# Altium footprint library RES_SMD.PcbLib: 3 footprints
Each footprint in its own frame and in the unit in brackets; x right, y up, seen from the top. Pads: shape width x height; smd on the part's side, far side on the other; paste and mask are expansions set on the pad; w line width, h text height; cw(c..) or ccw(c..) is an arc to the next point about the centre after c.
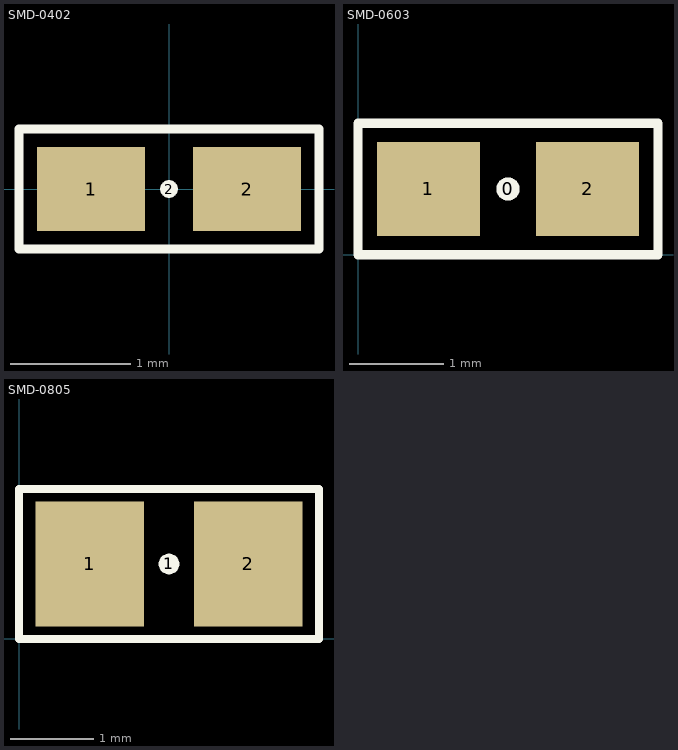
[diagram p0: the footprints below, top view; thin cyan lines are the x and y axes]

## SMD-0402 [mm] "Chip Resistor; Body 1 x 0.5 mm (LxW typ)"
height 0.4
pads (3):
  rect 0.9x0.7 smd: 1(-0.65,0) 2(0.65,0)
  round 0.15 on Top Overlay: 2(0,0)
Top Overlay:
  lines w0.075: -1.25,-0.5 1.25,-0.5 1.25,0.5 -1.25,0.5 -1.25,-0.5

## SMD-0603 [mm] "Chip Resistor; Body 1.6 x 0.8 mm (LxW typ)"
height 0.55
pads (3):
  round 0.25 on Top Overlay: 0(1.6,0.7)
  rect 1.1x1 smd: 1(0.75,0.7) 2(2.45,0.7)
Top Overlay:
  lines w0.1: 0,0 0,1.4 3.2,1.4 3.2,0 0,0
3D body "User Library-CR1608-0603.STEP": height 0.45, standoff 0, extent 0.825,0.3 2.425,1.1

## SMD-0805 [mm] "Chip Resistor; Body 2 x 1.3 mm (LxW typ)"
height 0.6
pads (3):
  rect 1.3x1.5 smd: 1(0.85,0.9) 2(2.75,0.9)
  round 0.25 on Top Overlay: 1(1.8,0.9)
Top Overlay:
  lines w0.1: 0,0 0,1.8 3.6,1.8 3.6,0 0,0
3D body "User Library-CR2012-0805.STEP": height 0.6, standoff 0, extent 0.825,0.25 2.825,1.5